# Altium integrated library Sensor - Pressure.IntLib: 9 symbols
Pins are listed as number, name and electrical type; pins without a type are passive.

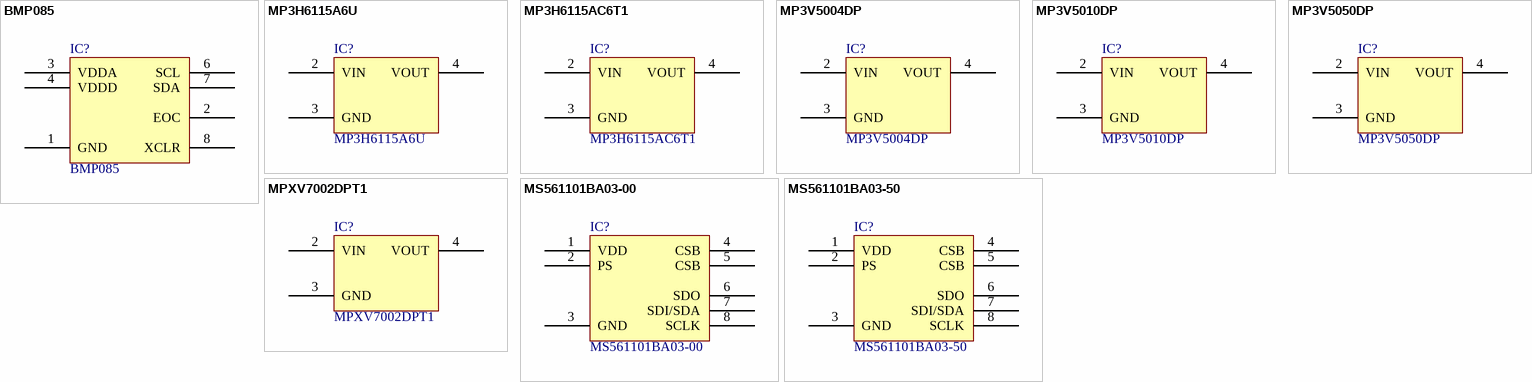
[diagram p0: symbols BMP085 to MS561101BA03-50]

## BMP085
designator IC?
DIGITAL BAROMETRIC PRESSURE SNSR; Manufacturer: Bosch Sensortec; Pressure Type: Absolute; Operating Pressure: 4.35 PSI ~ 15.95 PSI (30 kPa ~ 110 kPa); Output Type: IC; Output: 16 ~ 19 b; Accuracy: 2%; Voltage - Supply: 1.62 V ~ 3.6 V; Port Style: No Port; Maximum Pressure: 145.04 PSI (1000 kPa); Part Number: BMP085; PartId: 9715; Supplier 1: Digi-Key; Supplier Part Number 1: 828-1005-1-ND; ComponentLink1Description: Datasheet; ComponentLink1URL: http://media.digikey.com/pdf/Data%20Sheets/Bosch/BMP085.pdf; ComponentLink2Description: Digi-Key Listing; ComponentLink2URL: http://www.digikey.ca/product-detail/en/bosch-sensortec/BMP085/828-1005-1-ND/1987010; Device Package: 8-CLCC; Price: 0; Series: -; Operating Temperature: -40C ~ 85C; Port Size: -; Features: -
footprint BOSCH BMP085
pins: 1 GND "Desc1", 2 EOC "Desc1", 3 VDDA "Desc1", 4 VDDD "Desc1", 6 SCL "Desc1", 7 SDA "Desc1", 8 XCLR "Desc1"

## MP3H6115A6U
designator IC?
IC PRESSURE SENSOR 16.7PSI 8SSOP; Manufacturer: Freescale Semiconductor - NXP; Pressure Type: Absolute; Operating Pressure: 2.18 PSI ~ 16.68 PSI (15 kPa ~ 115 kPa); Output Type: Analog, Voltage; Output: 0.12 V ~ 2.8 V; Accuracy: 1.5%; Voltage - Supply: 2.7 V ~ 3.3 V; Port Size: Male - 0.13" (3.3mm) Tube; Port Style: Barbless; Maximum Pressure: 58.02 PSI (400 kPa); Part Number: MP3H6115A6U; PartId: 9713; Supplier 1: Digi-Key; Supplier Part Number 1: MP3H6115A6U-ND; ComponentLink1Description: Datasheet; ComponentLink1URL: http://www.freescale.com/files/sensors/doc/data_sheet/MP3H6115A.pdf; ComponentLink2Description: Digi-Key Listing; ComponentLink2URL: http://www.digikey.com/product-detail/en/freescale-semiconductor-nxp/MP3H6115A6U/MP3H6115A6U-ND/1168059; Device Package: 8-SOIC (0.295", 7.50mm Width); Price: 11.11; Series: -; Operating Temperature: -40C ~ 125C; Features: Temperature Compensated
footprint FREESCALE MP3H6115A6
pins: 2 VIN, 3 GND, 4 VOUT

## MP3H6115AC6T1
designator IC?
SENSOR PRESS 16.7PSI MAX 8-SSOP; Manufacturer: Freescale Semiconductor - NXP; Pressure Type: Absolute; Operating Pressure: 2.18 PSI ~ 16.68 PSI (15 kPa ~ 115 kPa); Output Type: Analog, Voltage; Output: 0.12 V ~ 2.8 V; Accuracy: 1.5%; Voltage - Supply: 2.7 V ~ 3.3 V; Port Size: Male - 0.13" (3.3mm) Tube; Port Style: Barbless; Maximum Pressure: 58.02 PSI (400 kPa); Part Number: MP3H6115AC6T1; PartId: 9714; Supplier 1: Digi-Key; Supplier Part Number 1: MP3H6115AC6T1-ND; ComponentLink1Description: Datasheet; ComponentLink1URL: http://www.freescale.com/files/sensors/doc/data_sheet/MP3H6115A.pdf; ComponentLink2Description: Digi-Key Listing; ComponentLink2URL: http://www.digikey.com/product-detail/en/freescale-semiconductor-nxp/MP3H6115AC6T1/MP3H6115AC6T1-ND/1168060; Device Package: 8-SSOP (0.335", 8.50mm Width), Top Port; Price: 7.668; Series: -; Operating Temperature: -40C ~ 125C; Features: Temperature Compensated
footprint FREESCALE MP3H6115A6
pins: 2 VIN, 3 GND, 4 VOUT

## MP3V5004DP
designator IC?
IC PRESSURE SENSOR 8-SOP; Manufacturer: Freescale Semiconductor - NXP; Pressure Type: Differential; Operating Pressure: 0.57 PSI (3.92 kPa); Output Type: Analog, Voltage; Output: 0.6 V ~ 3 V; Accuracy: 2.5%; Voltage - Supply: 2.7 V ~ 3.3 V; Port Size: Male - 0.13" (3.3mm) Tube, Dual; Port Style: Barbed; Maximum Pressure: 2.32 PSI (16 kPa); Part Number: MP3V5004DP; PartId: 9718; Supplier 1: Digi-Key; Supplier Part Number 1: MP3V5004DP-ND; ComponentLink1Description: Datasheet; ComponentLink1URL: http://cache.freescale.com/files/sensors/doc/data_sheet/MP3V5004G.pdf; ComponentLink2Description: Digi-Key Listing; ComponentLink2URL: http://www.digikey.com/product-detail/en/freescale-semiconductor-nxp/MP3V5004DP/MP3V5004DP-ND/2186178; Device Package: 8-BSOP Dual Port; Price: 10.62; Series: MP3V5004; Operating Temperature: 0C ~ 85C; Features: Temperature Compensated
footprint FREESCALE MP3V5050
pins: 2 VIN, 3 GND, 4 VOUT

## MP3V5010DP
designator IC?
IC PRESSURE SENSOR 8-SOP; Manufacturer: Freescale Semiconductor - NXP; Pressure Type: Differential; Operating Pressure: 1.45 PSI (10 kPa); Output Type: Analog, Voltage; Output: 0.1 V ~ 3.1 V; Accuracy: 5%; Voltage - Supply: 2.7 V ~ 3.3 V; Port Size: Male - 0.13" (3.3mm) Tube, Dual; Port Style: Barbed; Maximum Pressure: 10.88 PSI (75 kPa); Part Number: MP3V5010DP; PartId: 9717; Supplier 1: Digi-Key; Supplier Part Number 1: MP3V5010DP-ND; ComponentLink1Description: Datasheet; ComponentLink1URL: http://cache.freescale.com/files/sensors/doc/data_sheet/MP3V5010.pdf; ComponentLink2Description: Digi-Key Listing; ComponentLink2URL: http://www.digikey.com/product-detail/en/freescale-semiconductor-nxp/MP3V5010DP/MP3V5010DP-ND/2186183; Device Package: 8-BSOP Dual Port; Price: 10.62; Series: MP3V5010; Operating Temperature: -40C ~ 125C; Features: Temperature Compensated
footprint FREESCALE MP3V5050
pins: 2 VIN, 3 GND, 4 VOUT

## MP3V5050DP
designator IC?
IC PRESSURE SENSOR 8-SOP; Manufacturer: Freescale Semiconductor - NXP; Pressure Type: Differential; Operating Pressure: 7.25 PSI (50 kPa); Output Type: Analog, Voltage; Output: 0.06 V ~ 2.82 V; Accuracy: 2.5%; Voltage - Supply: 2.7 V ~ 3.3 V; Port Size: Male - 0.13" (3.3mm) Tube, Dual; Port Style: Barbed; Maximum Pressure: 29.01 PSI (200 kPa); Part Number: MP3V5050DP; PartId: 9716; Supplier 1: Digi-Key; Supplier Part Number 1: MP3V5050DP-ND; ComponentLink1Description: Datasheet; ComponentLink1URL: http://www.freescale.com/files/sensors/doc/data_sheet/MP3V5050.pdf; ComponentLink2Description: Digi-Key Listing; ComponentLink2URL: http://www.digikey.com/product-detail/en/freescale-semiconductor-nxp/MP3V5050DP/MP3V5050DP-ND/2186188; Device Package: 8-BSOP Dual Ports; Price: 10.62; Series: MP3V5050; Operating Temperature: -40C ~ 125C; Features: Temperature Compensated
footprint FREESCALE MP3V5050
pins: 2 VIN, 3 GND, 4 VOUT

## MPXV7002DPT1
designator IC?
PRESSURE SENSOR DUAL PORT 8SOP; Manufacturer: Freescale Semiconductor - NXP; Pressure Type: Differential; Operating Pressure: 0.29 PSI (2 kPa); Output Type: Analog, Voltage; Output: 0.5 V ~ 4.5 V; Accuracy: 5%; Voltage - Supply: 4.75 V ~ 5.25 V; Port Size: Male - 0.13" (3.3mm) Tube, Dual; Port Style: Barbed; Maximum Pressure: 10.88 PSI (75 kPa); Part Number: MPXV7002DPT1; PartId: 9712; Supplier 1: Digi-Key; Supplier Part Number 1: MPXV7002DPT1TR-ND; ComponentLink1Description: Datasheet; ComponentLink1URL: http://www.freescale.com/files/sensors/doc/data_sheet/MPXV7002.pdf; ComponentLink2Description: Digi-Key Listing; ComponentLink2URL: http://www.digikey.com/product-search/en/sensors-transducers/pressure-sensors-transducers/1966259?k=MPXV7002+TR-ND&mnonly=0&newproducts=0&ColumnSort=0&page=1&quantity=0&ptm=0&fid=0&pageSize=500; Device Package: 8-SMD Module; Price: 8.856; Series: MPXV7002; Operating Temperature: 10C ~ 60C; Features: Temperature Compensated
footprint FREESCALE MPXV7002DP
pins: 2 VIN, 3 GND, 4 VOUT

## MS561101BA03-00
designator IC?
BAROMETRIC PRESSURE SENSOR; Manufacturer: TE Connectivity Measurement Specialties; Pressure Type: Absolute; Operating Pressure: 0.15 PSI ~ 17.4 PSI (1 kPa ~ 120 kPa); Output Type: IC, SPI; Output: 24 b; Accuracy: 0.022 PSI (0.15 kPa); Voltage - Supply: 1.8 V ~ 3.6 V; Port Style: No Port; Maximum Pressure: 87.02 PSI (600 kPa); Part Number: MS561101BA03-00; PartId: 9710; Supplier 1: Digi-Key; Supplier Part Number 1: 223-1621-ND; ComponentLink1Description: Datasheet; ComponentLink1URL: http://www.meas-spec.com/downloads/MS5611-01BA03.pdf; ComponentLink2Description: Digi-Key Listing; ComponentLink2URL: http://www.digikey.com/product-detail/en/te-connectivity-measurement-specialties/MS561101BA03-00/223-1621-ND/5277498; Device Package: 8-SMD; Price: 14.56; Series: -; Operating Temperature: -40C ~ 85C; Port Size: -; Features: -
footprint MEAS SPEC MS5611-01BA03
pins: 1 VDD "Positive supply voltage", 2 PS "Protocol select - PS high I2C, PS low SPI", 3 GND "Ground", 4 CSB "Chip select", 5 CSB "Chip select", 6 SDO "Serial data output", 7 SDI/SDA "Serial Data input/I2C data IO", 8 SCLK "Serial Data Clock"

## MS561101BA03-50
designator IC?
BAROMETRIC PRESSURE SENSOR; Manufacturer: TE Connectivity Measurement Specialties; Pressure Type: Absolute; Operating Pressure: 0.15 PSI ~ 17.4 PSI (1 kPa ~ 120 kPa); Output Type: IC, SPI; Output: 24 b; Accuracy: 0.022 PSI (0.15 kPa); Voltage - Supply: 1.8 V ~ 3.6 V; Port Style: No Port; Maximum Pressure: 87.02 PSI (600 kPa); Part Number: MS561101BA03-50; PartId: 9711; Supplier 1: Digi-Key; Supplier Part Number 1: 223-1622-2-ND; ComponentLink1Description: Datasheet; ComponentLink1URL: http://www.meas-spec.com/downloads/MS5611-01BA03.pdf; ComponentLink2Description: Digi-Key Listing; ComponentLink2URL: http://www.digikey.com/product-detail/en/te-connectivity-measurement-specialties/MS561101BA03-50/223-1622-2-ND/5277445; Device Package: 8-SMD; Price: 6.325; Series: -; Operating Temperature: -40C ~ 85C; Port Size: -; Features: -
footprint MEAS SPEC MS5611-01BA03
pins: 1 VDD "Positive supply voltage", 2 PS "Protocol select - PS high I2C, PS low SPI", 3 GND "Ground", 4 CSB "Chip select", 5 CSB "Chip select", 6 SDO "Serial data output", 7 SDI/SDA "Serial Data input/I2C data IO", 8 SCLK "Serial Data Clock"